# Altium footprint library myPcbLib1.PcbLib: 151 footprints (part 2 of 10)
Each footprint in its own frame and in the unit in brackets; x right, y up, seen from the top. Pads: shape width x height; smd on the part's side, far side on the other; paste and mask are expansions set on the pad; w line width, h text height; cw(c..) or ccw(c..) is an arc to the next point about the centre after c.
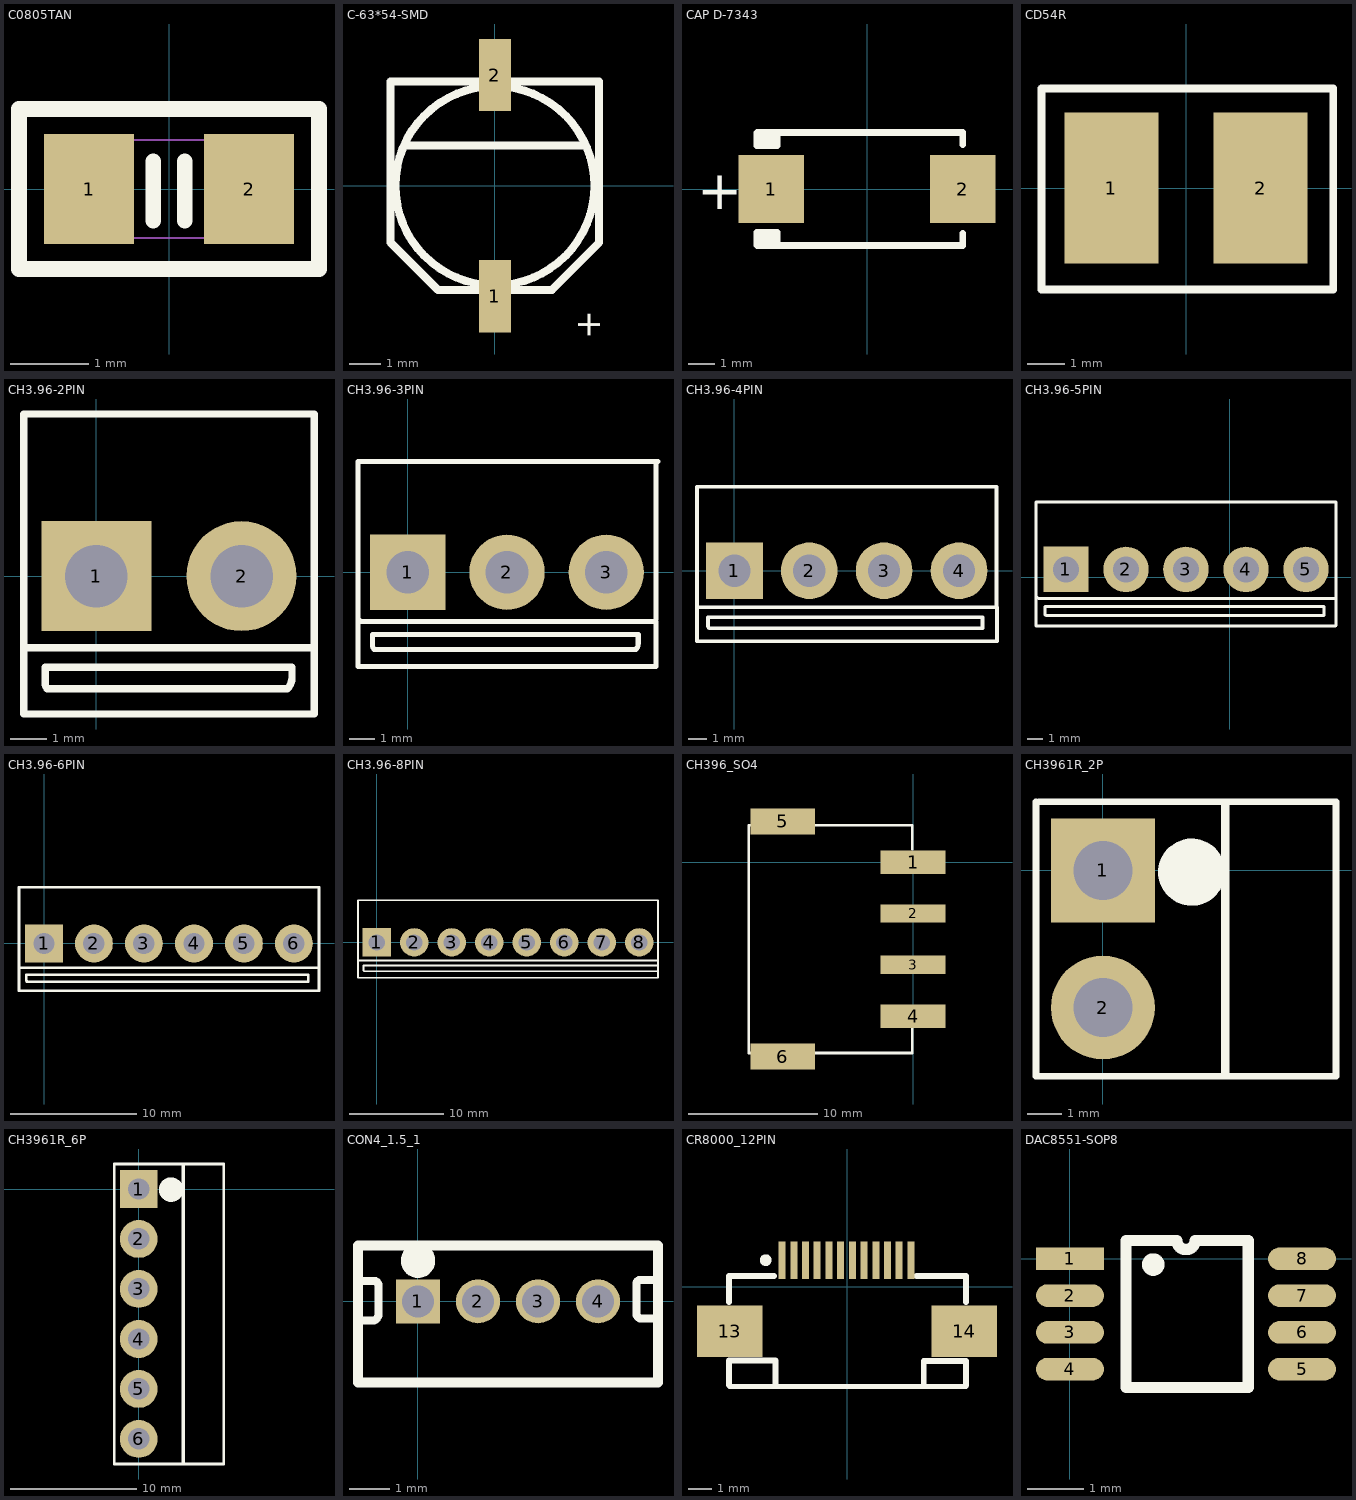
[diagram p1: the footprints below, top view; thin cyan lines are the x and y axes]

## C0805TAN [mil]
pads (2):
  rect 45x55 smd: 1(-40,0) 2(40,0)
Top Overlay:
  lines w7.87: -7.87,-15.75 -7.87,13.78 ; 7.87,-15.75 7.87,13.78 ; -75,-40 75,-40 75,40 -75,40 -75,-40
Mechanical 8:
  lines w1: -39.37,-24.61 39.37,-24.61 39.37,24.61 -39.37,24.61 -39.37,-24.61

## C-63*54-SMD [mil]
pads (2):
  rect 40x90 smd: 1(0,-137.8) 2(0,137.8)
Top Overlay:
  circle w10: c0,0 r124.02
  lines w10: -110,50 110,50 ; -129.92,-70.87 -70.87,-129.92 70.87,-129.92 129.92,-70.87 129.92,129.92 -129.92,129.92 -129.92,-70.87
  text "+" at 131,-191 h31.5

## CAP D-7343 [mm]
pads (2):
  rect 2.5x2.6 smd: 1(-3.65,0) 2(3.65,0)
Top Overlay:
  lines w0.254: -4.191,-1.905 -3.65,-1.905 ; -4.191,1.905 -3.65,1.905 ; -3.937,1.651 -3.429,1.651 -3.429,2.15 ; -3.683,1.651 -4.191,1.651 -4.191,2.141 -4.182,2.15 -3.65,2.15 ; -3.65,-1.684 -3.65,-2.15 ; -3.65,1.684 -3.65,2.15 ; -3.429,-2.15 -3.429,-1.651 -3.683,-1.651 -4.191,-1.651 -4.191,-2.141 -4.182,-2.15 -3.65,-2.15 ; 3.65,-1.684 3.65,-2.15 -3.65,-2.15 ; 3.65,1.684 3.65,2.15 -3.65,2.15
  text "+" at -6.477,-0.762 h1.5

## CD54R [mm]
pads (2):
  rect 2.5x4 smd: 1(-1.981,0) 2(1.981,0)
Top Overlay:
  lines w0.2: -3.835,-2.692 -3.835,2.642 3.912,2.642 3.912,-2.692 -3.835,-2.692

## CH3.96-2PIN [mm]
pads (2):
  rect 3x3 hole 1.7: 1(0,0)
  round 3 hole 1.7: 2(3.96,0)
Top Overlay:
  lines w0.2: -1.981,-1.956 5.944,-1.956 ; -1.981,-3.759 5.944,-3.759 5.944,-1.854 5.944,4.42 -1.981,4.42 -1.981,-1.854 -1.981,-3.759 ; -1.397,-2.925 ccw(c-1.188,-2.925) -1.336,-3.073 5.207,-3.073 ccw(c4.9,-2.767) 5.334,-2.767 5.334,-2.489 -1.397,-2.489 -1.397,-2.925

## CH3.96-3PIN [mm]
pads (3):
  rect 3x3 hole 1.7: 1(0,0)
  round 3 hole 1.7: 2(3.96,0) 3(7.92,0)
Top Overlay:
  lines w0.2: 9.906,-1.854 9.906,4.42 ; 9.982,4.42 -1.981,4.42 -1.981,-1.854 ; -1.981,-1.854 -1.981,-3.759 9.906,-3.759 9.906,-1.956 -1.88,-1.956 -1.981,-1.854 ; -1.397,-2.925 ccw(c-1.188,-2.925) -1.336,-3.073 9.098,-3.073 ccw(c8.863,-2.839) 9.195,-2.839 9.195,-2.489 -1.397,-2.489 -1.397,-2.925

## CH3.96-4PIN [mm]
pads (4):
  rect 3x3 hole 1.7: 1(0,0)
  round 3 hole 1.7: 2(3.96,0) 3(7.92,0) 4(11.887,0)
Top Overlay:
  lines w0.2: -1.981,-1.93 13.894,-1.93 13.894,-3.734 -1.981,-3.734 -1.981,-1.829 -1.981,4.445 13.868,4.445 13.868,-1.829 ; -1.397,-2.9 ccw(c-1.188,-2.9) -1.336,-3.048 13.106,-3.048 ccw(c13.045,-2.987) 13.132,-2.987 13.132,-2.464 -1.397,-2.464 -1.397,-2.9

## CH3.96-5PIN [mm]
pads (5):
  rect 3x3 hole 1.7: 1(-10.82,0.508)
  round 3 hole 1.7: 2(-6.86,0.508) 3(-2.9,0.508) 4(1.067,0.508) 5(5.027,0.508)
Top Overlay:
  lines w0.2: -12.802,-1.27 -12.649,-1.422 7.01,-1.422 ; -12.802,-1.27 -12.802,4.953 7.01,4.953 7.01,-1.422 ; -12.802,-1.27 -12.802,-3.226 6.985,-3.226 7.01,-3.2 7.01,-1.422 ; -12.217,-2.392 ccw(c-12.008,-2.392) -12.156,-2.54 6.223,-2.54 6.223,-1.956 -12.217,-1.956 -12.217,-2.392

## CH3.96-6PIN [mm]
pads (6):
  rect 3x3 hole 1.7: 1(0,-0.025)
  round 3 hole 1.7: 2(3.96,-0.025) 3(7.92,-0.025) 4(11.887,-0.025) 5(15.847,-0.025) 6(19.807,-0.025)
Top Overlay:
  lines w0.2: -1.981,-1.956 21.793,-1.956 ; -1.981,-3.759 -1.981,-1.854 -1.981,4.42 21.793,4.42 21.793,-1.854 21.793,-3.759 -1.981,-3.759 ; -1.397,-2.925 ccw(c-1.188,-2.925) -1.336,-3.073 20.955,-3.073 20.955,-2.489 -1.397,-2.489 -1.397,-2.925

## CH3.96-8PIN [mm]
pads (8):
  rect 3x3 hole 1.7: 1(0,0)
  round 3 hole 1.7: 2(3.96,0) 3(7.92,0) 4(11.887,0) 5(15.847,0) 6(19.807,0) 7(23.767,0) 8(27.727,0)
Top Overlay:
  lines w0.2: -1.981,-1.93 29.707,-1.93 ; 29.667,-2.464 -1.397,-2.464 -1.397,-2.9 ccw(c-1.188,-2.9) -1.336,-3.048 29.707,-3.048 ; 29.707,-3.048 29.707,-2.464 29.707,-1.829 29.707,4.445 -1.981,4.445 -1.981,-1.829 -1.981,-3.734 23.698,-3.734 29.696,-3.734 29.707,-3.723 29.707,-3.048

## CH396_SO4 [mm]
pads (6):
  rect 5x1.8 smd: 1(0,0) 4(0,-11.887)
  rect 5x1.4 smd: 2(0,-3.96) 3(0,-7.92)
  rect 5x2 smd: 5(-10.058,3.15) 6(-10.058,-15.011)
Top Overlay:
  lines w0.2: -0.051,-12.852 -0.051,-14.732 -12.7,-14.732 -12.7,2.845 -0.051,2.845 -0.051,0.991

## CH3961R_2P [mm]
pads (2):
  rect 3x3 hole 1.7: 1(0,0)
  round 3 hole 1.7: 2(0,-3.96)
Top Overlay:
  circle w1: c2.565,-0.051 r0.468
  lines w0.2: -1.93,1.981 -1.93,-5.944 6.731,-5.944 6.731,1.981 -1.829,1.981
  lines w0.254: 3.531,-5.893 3.531,1.905

## CH3961R_6P [mm]
pads (6):
  rect 3x3 hole 1.7: 1(0,0)
  round 3 hole 1.7: 2(0,-3.96) 3(0,-7.92) 4(0,-11.887) 5(0,-15.847) 6(0,-19.807)
Top Overlay:
  circle w1: c2.565,-0.051 r0.468
  lines w0.2: -1.93,-21.793 -1.93,1.981 ; -1.905,-21.793 6.731,-21.793 6.731,1.981 -1.829,1.981
  lines w0.254: 3.531,-21.742 3.531,1.905

## CON4_1.5_1 [mm]
pads (4):
  rect 1.1x1.1 hole 0.8: 1(0,0)
  round 1.1 hole 0.8: 2(1.5,0) 3(3,0) 4(4.5,0)
Top Overlay:
  circle w0.5: c0,1.016 r0.18
  lines w0.2: -1.5,0.508 -1.092,0.508 cw(c-1.092,0.406) -0.991,0.406 -0.991,-0.33 cw(c-1.143,-0.33) -1.143,-0.483 -1.448,-0.483 ccw(c-1.448,-0.533) -1.499,-0.533 ; 5.969,-0.406 cw(c5.944,-0.406) 5.944,-0.432 5.588,-0.432 cw(c5.588,-0.305) 5.461,-0.305 5.461,0.432 cw(c5.563,0.432) 5.563,0.533 6,0.533
  lines w0.254: -1.5,-2.032 6,-2.032 6,1.4 -1.5,1.4 -1.5,-2.032

## CR8000_12PIN [mm]
pads (14):
  rect 0.3x1.6 smd: 1(-2.771,1.13) 2(-2.271,1.13) 3(-1.771,1.13) 4(-1.271,1.13) 5(-0.771,1.13) 6(-0.271,1.13) 7(0.229,1.13) 8(0.729,1.13) 9(1.229,1.13) 10(1.729,1.13) 11(2.229,1.13) 12(2.729,1.13)
  rect 2.8x2.2 smd: 13(-5.004,-1.905) 14(5.004,-1.905)
Top Overlay:
  circle w0.25: c-3.471,1.13 r0.125
  lines w0.2: -5.029,-4.267 5.08,-4.267
  lines w0.254: -5.029,-4.191 -5.029,-3.15 -3.048,-3.15 -3.048,-4.166 ; -5.029,-0.66 -5.029,0.457 ; -5.004,0.457 -3.124,0.457 ; 2.972,0.457 5.055,0.457 ; 3.277,-4.242 3.277,-3.175 5.08,-3.175 5.08,-4.216 ; 5.08,-0.66 5.08,0.457

## DAC8551-SOP8 [mm]
pads (8):
  rect 1.2x0.4 smd: 1(0,0)
  oval 1.2x0.4 smd: 2(0,-0.65) 3(0,-1.3) 4(0,-1.95) 5(4.1,-1.95) 6(4.1,-1.3) 7(4.1,-0.65) 8(4.1,0)
Top Overlay:
  circle w0.254: c1.473,-0.102 r0.072
  lines w0.2: 0.991,-2.275 0.991,0.325 1.887,0.325 ccw(c2.05,0.325) 2.212,0.325 3.15,0.325 3.15,-2.275 0.991,-2.275